# EAGLE library part AD844AN (library 1A-meinLib)
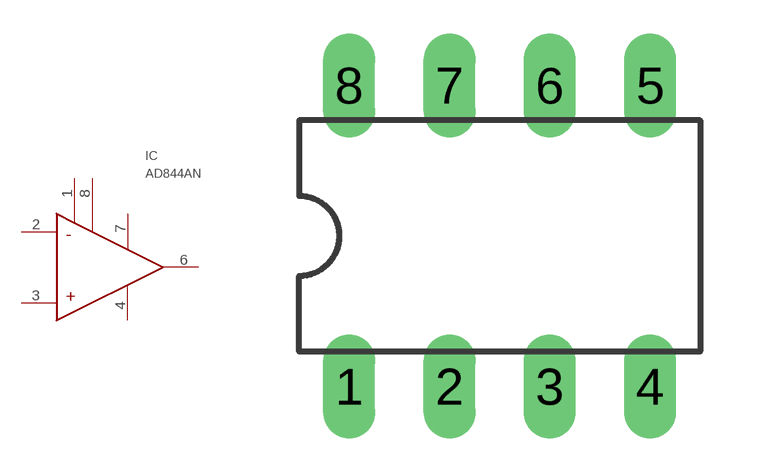
[diagram p0: symbol with the pads of DIL08; footprint DIL08]

Designator prefix IC

## AD844AN  [DIL08]
1  1  pas
2  2  in
3  3  in
4  4  pwr
6  6  out
7  7  pwr
8  8  pas

## Footprint DIL08 (pad centres in mm)
Dual In Line Package
drill 0.813 long: 1 -3.81,-3.81; 2 -1.27,-3.81; 3 1.27,-3.81; 4 3.81,-3.81; 5 3.81,3.81; 6 1.27,3.81; 7 -1.27,3.81; 8 -3.81,3.81